# Altium footprint library Hole.PcbLib: 10 footprints
Each footprint in its own frame and in the unit in brackets; x right, y up, seen from the top. Pads: shape width x height; smd on the part's side, far side on the other; paste and mask are expansions set on the pad; w line width, h text height; cw(c..) or ccw(c..) is an arc to the next point about the centre after c.
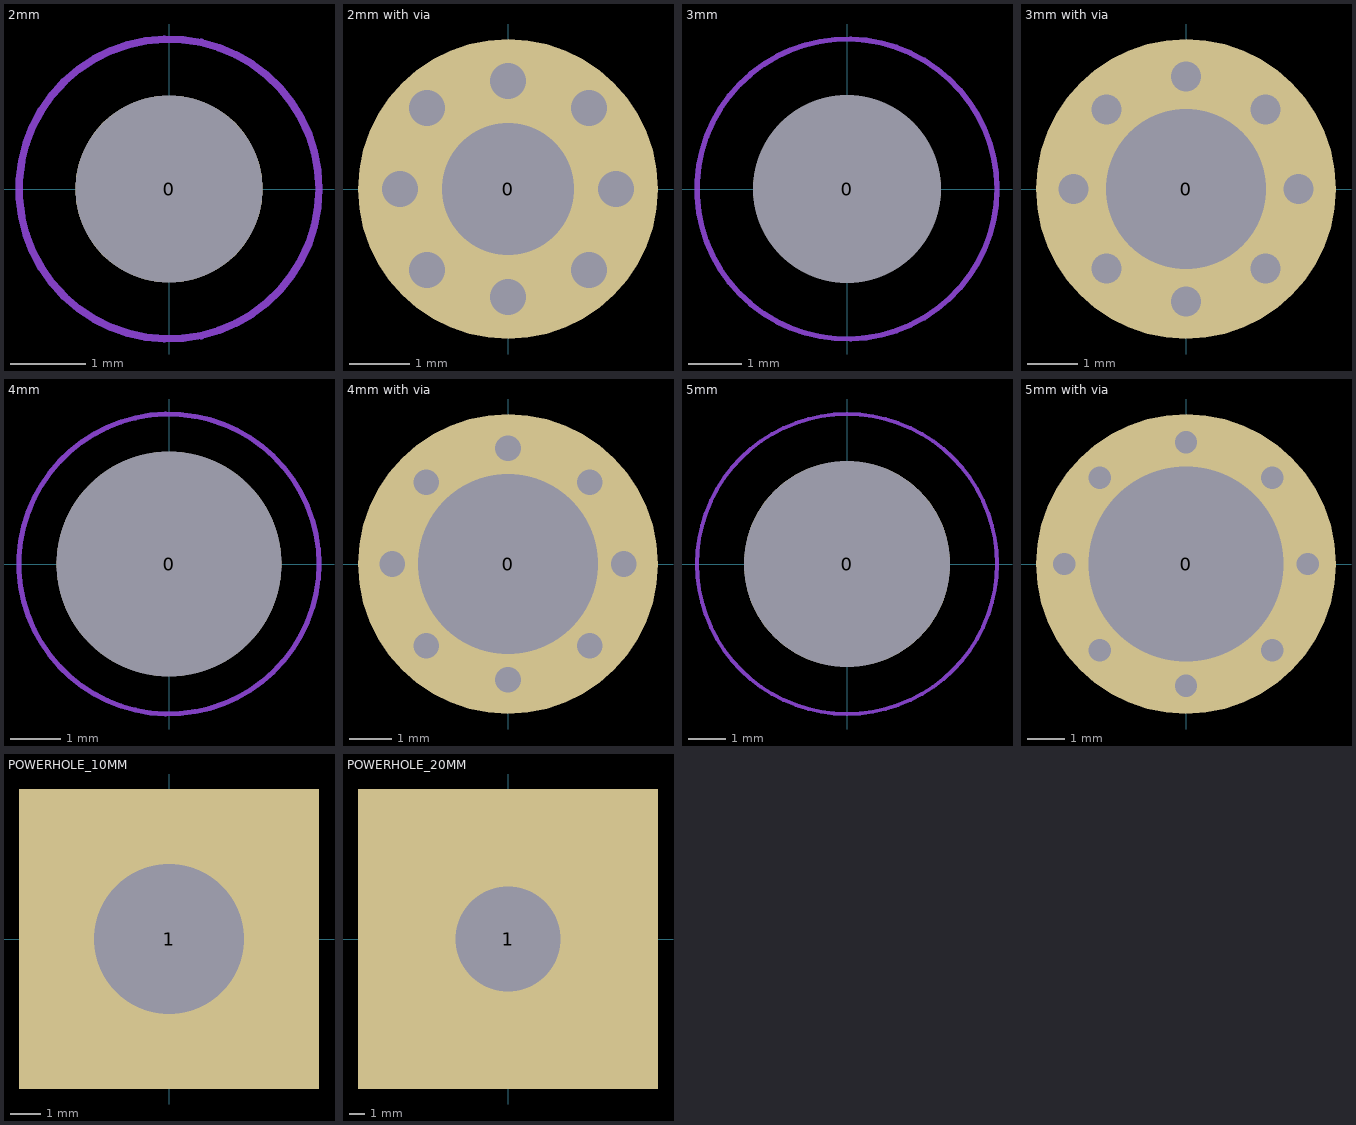
[diagram p0: the footprints below, top view; thin cyan lines are the x and y axes]

## 2mm [mm]
pads (1):
  round 2.5 hole 2.5 unplated: 0(0,0)
Top Layer keep-out:
  circle w0.1: c0,0 r2
Bottom Layer keep-out:
  circle w0.1: c0,0 r2

## 2mm with via [mm]
pads (1):
  round 5 hole 2.2: 0(0,0)
via -1.35,-1.35 diameter 0.6 hole 0.6
via 1.35,-1.35 diameter 0.6 hole 0.6
via -1.35,1.35 diameter 0.6 hole 0.6
via -1.8,0 diameter 0.6 hole 0.6
via 1.8,0 diameter 0.6 hole 0.6
via 0,-1.8 diameter 0.6 hole 0.6
via 1.35,1.35 diameter 0.6 hole 0.6
via 0,1.8 diameter 0.6 hole 0.6

## 3mm [mm]
pads (1):
  round 3.5 hole 3.5 unplated mask-2539.97: 0(0,0)
Top Layer keep-out:
  circle w0.1: c0,0 r2.8
Bottom Layer keep-out:
  circle w0.1: c0,0 r2.8
Top Solder:
  circle w2: c0,0 r1
Bottom Solder:
  circle w2: c0,0 r1

## 3mm with via [mm]
pads (1):
  round 6 hole 3.2: 0(0,0)
via 2.25,0 diameter 0.6 hole 0.6
via -2.25,0 diameter 0.6 hole 0.6
via 0,-2.25 diameter 0.6 hole 0.6
via 0,2.25 diameter 0.6 hole 0.6
via 1.591,1.591 diameter 0.6 hole 0.6
via -1.591,1.591 diameter 0.6 hole 0.6
via -1.591,-1.591 diameter 0.6 hole 0.6
via 1.591,-1.591 diameter 0.6 hole 0.6

## 4mm [mm]
pads (1):
  round 4.5 hole 4.5 unplated: 0(0,0)
Top Layer keep-out:
  circle w0.1: c0,0 r3
Bottom Layer keep-out:
  circle w0.1: c0,0 r3

## 4mm with via [mm]
pads (1):
  round 7 hole 4.2: 0(0,0)
via 2.7,0 diameter 0.6 hole 0.6
via 0,2.7 diameter 0.6 hole 0.6
via 0,-2.7 diameter 0.6 hole 0.6
via -2.7,0 diameter 0.6 hole 0.6
via 1.909,1.909 diameter 0.6 hole 0.6
via 1.909,-1.909 diameter 0.6 hole 0.6
via -1.909,-1.909 diameter 0.6 hole 0.6
via -1.909,1.909 diameter 0.6 hole 0.6

## 5mm [mm]
pads (1):
  round 5.5 hole 5.5 unplated: 0(0,0)
Top Layer keep-out:
  circle w0.1: c0,0 r4
Bottom Layer keep-out:
  circle w0.1: c0,0 r4

## 5mm with via [mm]
pads (1):
  round 8 hole 5.2: 0(0,0)
via 3.25,0 diameter 0.6 hole 0.6
via 0,3.25 diameter 0.6 hole 0.6
via 0,-3.25 diameter 0.6 hole 0.6
via -3.25,0 diameter 0.6 hole 0.6
via 2.298,2.298 diameter 0.6 hole 0.6
via -2.298,2.298 diameter 0.6 hole 0.6
via -2.298,-2.298 diameter 0.6 hole 0.6
via 2.298,-2.298 diameter 0.6 hole 0.6

## POWERHOLE_10MM [mm]
pads (1):
  rect 10x10 hole 5: 1(0,0)

## POWERHOLE_20MM [mm]
pads (1):
  rect 20x20 hole 7: 1(0,0)